# Altium footprint library JMPKG.PcbLib: 337 footprints (part 10 of 22)
Each footprint in its own frame and in the unit in brackets; x right, y up, seen from the top. Pads: shape width x height; smd on the part's side, far side on the other; paste and mask are expansions set on the pad; w line width, h text height; cw(c..) or ccw(c..) is an arc to the next point about the centre after c.
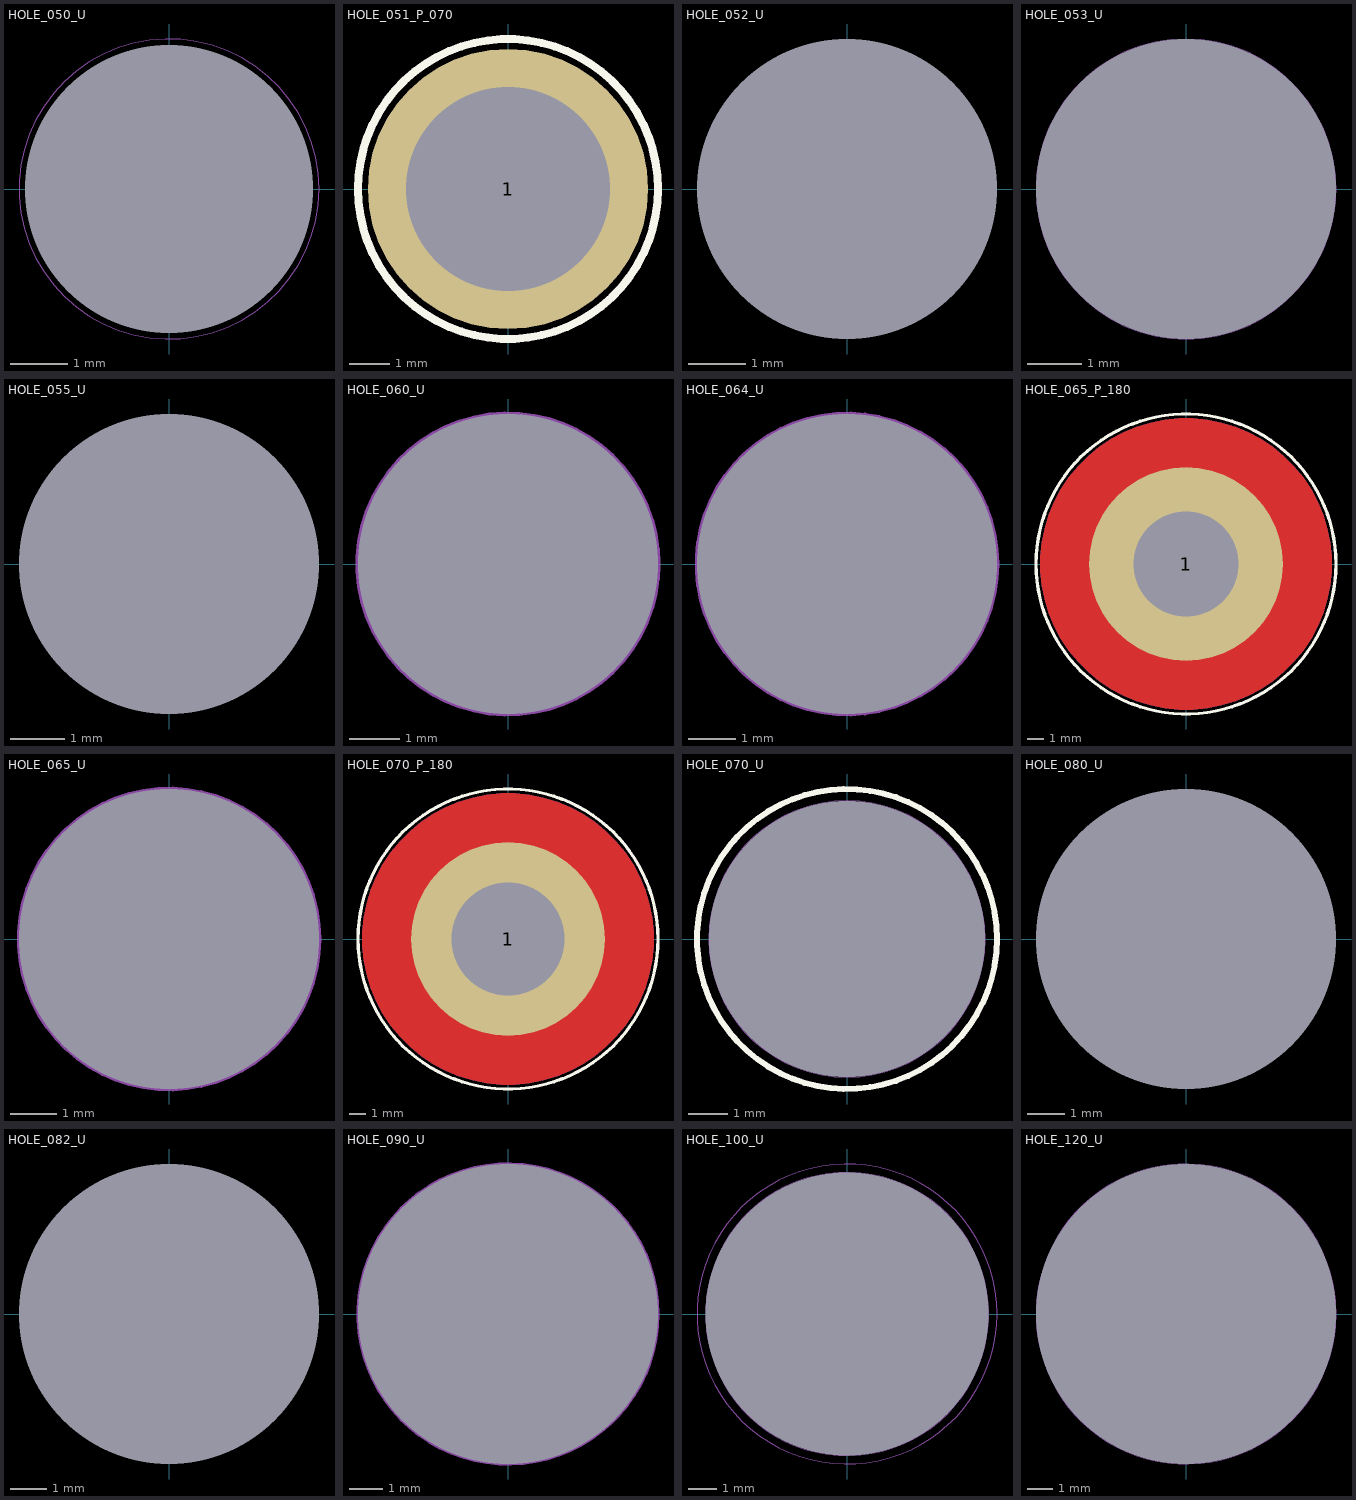
[diagram p9: the footprints below, top view; thin cyan lines are the x and y axes]

## HOLE_050_U [mm]
pads (1):
  round 0 hole 5 unplated: 1(0,0)
Drill Drawing:
  circle w0.01: c0,0 r2.5
Mechanical 20:
  circle w0.01: c0,0 r2.6

## HOLE_051_P_070 [mm]
pads (1):
  round 7 hole 5.1 mask+0.05: 1(0,0)
Top Overlay:
  circle w0.2: c0,0 r3.746
Mechanical 15:
  circle w0.01: c0,0 r2.55
Mechanical 16:
  circle w0.01: c0,0 r2.55
Multi-Layer:
  text "Value" at -1.19,-0.951 h0.75
  text "Value" at -1.172,0.184 h0.75
Mechanical 20:
  circle w0.01: c0,0 r3.746

## HOLE_052_U [mm]
pads (1):
  round 0 hole 5.2 unplated: 1(0,0)
Drill Drawing:
  circle w0.01: c0,0 r2.6

## HOLE_053_U [mm]
pads (1):
  round 0 hole 5.5 unplated: 1(0,0)
Mechanical 15:
  circle w0.01: c0,0 r2.75
Mechanical 16:
  circle w0.01: c0,0 r2.75
Multi-Layer:
  text "Value" at -1.235,-1.078 h0.75

## HOLE_055_U [mm]
pads (1):
  round 0 hole 5.5 unplated: 1(0,0)
Mechanical 15:
  circle w0.01: c0,0 r2.65
Mechanical 16:
  circle w0.01: c0,0 r2.65
Multi-Layer:
  text "Value" at -1.235,-1.078 h0.75

## HOLE_060_U [mm]
pads (1):
  round 0 hole 6 unplated: 1(0,0)
Mechanical 15:
  circle w0.1: c0,0 r3
Mechanical 16:
  circle w0.1: c0,0 r3

## HOLE_064_U [mm]
pads (1):
  round 0 hole 6.4 unplated: 1(0,0)
Mechanical 15:
  circle w0.1: c0,0 r3.2
Mechanical 16:
  circle w0.1: c0,0 r3.2

## HOLE_065_P_180 [mm]
pads (1):
  round 12 hole 6.5 mask+0.05: 1(0,0)
L1-Top Layer:
  region: 9,0 9,0.442 8.913,1.322 8.741,2.189 8.484,3.036 8.146,3.853 7.729,4.633 7.238,5.368 6.677,6.051 6.051,6.677 5.368,7.238 4.633,7.729 3.853,8.146 3.036,8.484 2.189,8.741 1.322,8.913 0.442,9 0,9 -0.442,9 -1.322,8.913 -2.189,8.741 -3.036,8.484 -3.853,8.146 -4.633,7.729 -5.368,7.238 -6.051,6.677 -6.677,6.051 -7.238,5.368 -7.729,4.633 -8.146,3.853 -8.484,3.036 -8.741,2.189 -8.913,1.322 -9,0.442 -9,0 -9,-0.442 -8.913,-1.322 -8.741,-2.189 -8.484,-3.036 -8.146,-3.853 -7.729,-4.633 -7.238,-5.368 -6.677,-6.051 -6.051,-6.677 -5.368,-7.238 -4.633,-7.729 -3.853,-8.146 -3.036,-8.484 -2.189,-8.741 -1.322,-8.913 -0.442,-9 0,-9 0.442,-9 1.322,-8.913 2.189,-8.741 3.036,-8.484 3.853,-8.146 4.633,-7.729 5.368,-7.238 6.051,-6.677 6.677,-6.051 7.238,-5.368 7.729,-4.633 8.146,-3.853 8.484,-3.036 8.741,-2.189 8.913,-1.322 9,-0.442
L2-Botom Layer:
  region: 9,0 9,0.442 8.913,1.322 8.741,2.189 8.484,3.036 8.146,3.853 7.729,4.633 7.238,5.368 6.677,6.051 6.051,6.677 5.368,7.238 4.633,7.729 3.853,8.146 3.036,8.484 2.189,8.741 1.322,8.913 0.442,9 0,9 -0.442,9 -1.322,8.913 -2.189,8.741 -3.036,8.484 -3.853,8.146 -4.633,7.729 -5.368,7.238 -6.051,6.677 -6.677,6.051 -7.238,5.368 -7.729,4.633 -8.146,3.853 -8.484,3.036 -8.741,2.189 -8.913,1.322 -9,0.442 -9,0 -9,-0.442 -8.913,-1.322 -8.741,-2.189 -8.484,-3.036 -8.146,-3.853 -7.729,-4.633 -7.238,-5.368 -6.677,-6.051 -6.051,-6.677 -5.368,-7.238 -4.633,-7.729 -3.853,-8.146 -3.036,-8.484 -2.189,-8.741 -1.322,-8.913 -0.442,-9 0,-9 0.442,-9 1.322,-8.913 2.189,-8.741 3.036,-8.484 3.853,-8.146 4.633,-7.729 5.368,-7.238 6.051,-6.677 6.677,-6.051 7.238,-5.368 7.729,-4.633 8.146,-3.853 8.484,-3.036 8.741,-2.189 8.913,-1.322 9,-0.442
Top Overlay:
  circle w0.2: c0,0 r9.274
Top Solder:
  region: 9.1,0 9.1,0.447 9.012,1.337 8.838,2.214 8.578,3.069 8.236,3.895 7.815,4.684 7.318,5.427 6.751,6.119 6.119,6.751 5.427,7.318 4.684,7.815 3.895,8.236 3.069,8.578 2.214,8.838 1.337,9.012 0.447,9.1 0,9.1 -0.447,9.1 -1.337,9.012 -2.214,8.838 -3.069,8.578 -3.895,8.236 -4.684,7.815 -5.427,7.318 -6.119,6.751 -6.751,6.119 -7.318,5.427 -7.815,4.684 -8.236,3.895 -8.578,3.069 -8.838,2.214 -9.012,1.337 -9.1,0.447 -9.1,0 -9.1,-0.447 -9.012,-1.337 -8.838,-2.214 -8.578,-3.069 -8.236,-3.895 -7.815,-4.684 -7.318,-5.427 -6.751,-6.119 -6.119,-6.751 -5.427,-7.318 -4.684,-7.815 -3.895,-8.236 -3.069,-8.578 -2.214,-8.838 -1.337,-9.012 -0.447,-9.1 0,-9.1 0.447,-9.1 1.337,-9.012 2.214,-8.838 3.069,-8.578 3.895,-8.236 4.684,-7.815 5.427,-7.318 6.119,-6.751 6.751,-6.119 7.318,-5.427 7.815,-4.684 8.236,-3.895 8.578,-3.069 8.838,-2.214 9.012,-1.337 9.1,-0.447
Bottom Solder:
  region: 9.1,0 9.1,0.447 9.012,1.337 8.838,2.214 8.578,3.069 8.236,3.895 7.815,4.684 7.318,5.427 6.751,6.119 6.119,6.751 5.427,7.318 4.684,7.815 3.895,8.236 3.069,8.578 2.214,8.838 1.337,9.012 0.447,9.1 0,9.1 -0.447,9.1 -1.337,9.012 -2.214,8.838 -3.069,8.578 -3.895,8.236 -4.684,7.815 -5.427,7.318 -6.119,6.751 -6.751,6.119 -7.318,5.427 -7.815,4.684 -8.236,3.895 -8.578,3.069 -8.838,2.214 -9.012,1.337 -9.1,0.447 -9.1,0 -9.1,-0.447 -9.012,-1.337 -8.838,-2.214 -8.578,-3.069 -8.236,-3.895 -7.815,-4.684 -7.318,-5.427 -6.751,-6.119 -6.119,-6.751 -5.427,-7.318 -4.684,-7.815 -3.895,-8.236 -3.069,-8.578 -2.214,-8.838 -1.337,-9.012 -0.447,-9.1 0,-9.1 0.447,-9.1 1.337,-9.012 2.214,-8.838 3.069,-8.578 3.895,-8.236 4.684,-7.815 5.427,-7.318 6.119,-6.751 6.751,-6.119 7.318,-5.427 7.815,-4.684 8.236,-3.895 8.578,-3.069 8.838,-2.214 9.012,-1.337 9.1,-0.447
Mechanical 15:
  circle w0.1: c0,0 r3.25
Mechanical 16:
  circle w0.1: c0,0 r3.25
Multi-Layer:
  text "Value" at -1.235,-0.996 h0.75
Mechanical 20:
  circle w0.1: c0,0 r9.271

## HOLE_065_U [mm]
pads (1):
  round 0 hole 6.5 unplated: 1(0,0)
Mechanical 15:
  circle w0.1: c0,0 r3.25
Mechanical 16:
  circle w0.1: c0,0 r3.25

## HOLE_070_P_180 [mm]
pads (1):
  round 12 hole 7 mask+0.05: 1(0,0)
L1-Top Layer:
  region: 9,0 9,0.442 8.913,1.322 8.741,2.189 8.484,3.036 8.146,3.853 7.729,4.633 7.238,5.368 6.677,6.051 6.051,6.677 5.368,7.238 4.633,7.729 3.853,8.146 3.036,8.484 2.189,8.741 1.322,8.913 0.442,9 0,9 -0.442,9 -1.322,8.913 -2.189,8.741 -3.036,8.484 -3.853,8.146 -4.633,7.729 -5.368,7.238 -6.051,6.677 -6.677,6.051 -7.238,5.368 -7.729,4.633 -8.146,3.853 -8.484,3.036 -8.741,2.189 -8.913,1.322 -9,0.442 -9,0 -9,-0.442 -8.913,-1.322 -8.741,-2.189 -8.484,-3.036 -8.146,-3.853 -7.729,-4.633 -7.238,-5.368 -6.677,-6.051 -6.051,-6.677 -5.368,-7.238 -4.633,-7.729 -3.853,-8.146 -3.036,-8.484 -2.189,-8.741 -1.322,-8.913 -0.442,-9 0,-9 0.442,-9 1.322,-8.913 2.189,-8.741 3.036,-8.484 3.853,-8.146 4.633,-7.729 5.368,-7.238 6.051,-6.677 6.677,-6.051 7.238,-5.368 7.729,-4.633 8.146,-3.853 8.484,-3.036 8.741,-2.189 8.913,-1.322 9,-0.442
L2-Botom Layer:
  region: 9,0 9,0.442 8.913,1.322 8.741,2.189 8.484,3.036 8.146,3.853 7.729,4.633 7.238,5.368 6.677,6.051 6.051,6.677 5.368,7.238 4.633,7.729 3.853,8.146 3.036,8.484 2.189,8.741 1.322,8.913 0.442,9 0,9 -0.442,9 -1.322,8.913 -2.189,8.741 -3.036,8.484 -3.853,8.146 -4.633,7.729 -5.368,7.238 -6.051,6.677 -6.677,6.051 -7.238,5.368 -7.729,4.633 -8.146,3.853 -8.484,3.036 -8.741,2.189 -8.913,1.322 -9,0.442 -9,0 -9,-0.442 -8.913,-1.322 -8.741,-2.189 -8.484,-3.036 -8.146,-3.853 -7.729,-4.633 -7.238,-5.368 -6.677,-6.051 -6.051,-6.677 -5.368,-7.238 -4.633,-7.729 -3.853,-8.146 -3.036,-8.484 -2.189,-8.741 -1.322,-8.913 -0.442,-9 0,-9 0.442,-9 1.322,-8.913 2.189,-8.741 3.036,-8.484 3.853,-8.146 4.633,-7.729 5.368,-7.238 6.051,-6.677 6.677,-6.051 7.238,-5.368 7.729,-4.633 8.146,-3.853 8.484,-3.036 8.741,-2.189 8.913,-1.322 9,-0.442
Top Overlay:
  circle w0.2: c0,0 r9.274
Top Solder:
  region: 9.1,0 9.1,0.447 9.012,1.337 8.838,2.214 8.578,3.069 8.236,3.895 7.815,4.684 7.318,5.427 6.751,6.119 6.119,6.751 5.427,7.318 4.684,7.815 3.895,8.236 3.069,8.578 2.214,8.838 1.337,9.012 0.447,9.1 0,9.1 -0.447,9.1 -1.337,9.012 -2.214,8.838 -3.069,8.578 -3.895,8.236 -4.684,7.815 -5.427,7.318 -6.119,6.751 -6.751,6.119 -7.318,5.427 -7.815,4.684 -8.236,3.895 -8.578,3.069 -8.838,2.214 -9.012,1.337 -9.1,0.447 -9.1,0 -9.1,-0.447 -9.012,-1.337 -8.838,-2.214 -8.578,-3.069 -8.236,-3.895 -7.815,-4.684 -7.318,-5.427 -6.751,-6.119 -6.119,-6.751 -5.427,-7.318 -4.684,-7.815 -3.895,-8.236 -3.069,-8.578 -2.214,-8.838 -1.337,-9.012 -0.447,-9.1 0,-9.1 0.447,-9.1 1.337,-9.012 2.214,-8.838 3.069,-8.578 3.895,-8.236 4.684,-7.815 5.427,-7.318 6.119,-6.751 6.751,-6.119 7.318,-5.427 7.815,-4.684 8.236,-3.895 8.578,-3.069 8.838,-2.214 9.012,-1.337 9.1,-0.447
Bottom Solder:
  region: 9.1,0 9.1,0.447 9.012,1.337 8.838,2.214 8.578,3.069 8.236,3.895 7.815,4.684 7.318,5.427 6.751,6.119 6.119,6.751 5.427,7.318 4.684,7.815 3.895,8.236 3.069,8.578 2.214,8.838 1.337,9.012 0.447,9.1 0,9.1 -0.447,9.1 -1.337,9.012 -2.214,8.838 -3.069,8.578 -3.895,8.236 -4.684,7.815 -5.427,7.318 -6.119,6.751 -6.751,6.119 -7.318,5.427 -7.815,4.684 -8.236,3.895 -8.578,3.069 -8.838,2.214 -9.012,1.337 -9.1,0.447 -9.1,0 -9.1,-0.447 -9.012,-1.337 -8.838,-2.214 -8.578,-3.069 -8.236,-3.895 -7.815,-4.684 -7.318,-5.427 -6.751,-6.119 -6.119,-6.751 -5.427,-7.318 -4.684,-7.815 -3.895,-8.236 -3.069,-8.578 -2.214,-8.838 -1.337,-9.012 -0.447,-9.1 0,-9.1 0.447,-9.1 1.337,-9.012 2.214,-8.838 3.069,-8.578 3.895,-8.236 4.684,-7.815 5.427,-7.318 6.119,-6.751 6.751,-6.119 7.318,-5.427 7.815,-4.684 8.236,-3.895 8.578,-3.069 8.838,-2.214 9.012,-1.337 9.1,-0.447
Mechanical 15:
  circle w0.1: c0,0 r3.5
Mechanical 16:
  circle w0.1: c0,0 r3.5
Multi-Layer:
  text "Value" at -1.235,-0.996 h0.75
Mechanical 20:
  circle w0.1: c0,0 r9.271

## HOLE_070_U [mm]
pads (1):
  round 0 hole 7 unplated: 1(0,0)
Top Overlay:
  circle w0.15: c0,0 r3.8
Mechanical 15:
  circle w0.01: c0,0 r3.5
Mechanical 16:
  circle w0.01: c0,0 r3.5
Mechanical 20:
  circle w0.01: c0,0 r3.8

## HOLE_080_U [mm]
pads (1):
  round 0 hole 8 unplated: 1(0,0)
Drill Drawing:
  circle w0.01: c0,0 r4

## HOLE_082_U [mm]
pads (1):
  round 0 hole 8.2 unplated: 1(0,0)
Drill Drawing:
  circle w0.01: c0,0 r4.1

## HOLE_090_U [mm]
pads (1):
  round 0 hole 9 unplated: 1(0,0)
Mechanical 15:
  circle w0.1: c0,0 r4.5
Mechanical 16:
  circle w0.1: c0,0 r4.5

## HOLE_100_U [mm]
pads (1):
  round 0 hole 10 unplated: 1(0,0)
Mechanical 15:
  circle w0.01: c0,0 r5
Mechanical 16:
  circle w0.01: c0,0 r5
Mechanical 20:
  circle w0.01: c0,0 r5.3

## HOLE_120_U [mm]
pads (1):
  round 0 hole 12 unplated: 1(0,0)
Mechanical 15:
  circle w0.01: c0,0 r6
Mechanical 16:
  circle w0.01: c0,0 r6